# Altium schematic symbol library CRCW040266K5FKED.SchLib: 1 symbol
Pins are listed as number, name and electrical type; pins without a type are passive.

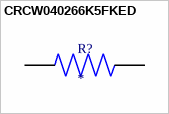
[diagram p0: symbol CRCW040266K5FKED]

## CRCW040266K5FKED
designator R?
Res Thick Film 0402 66.5K Ohm 1% 1/16W Â±100ppm/Â°C Molded SMD SMD Paper T/R; MP: CRCW040266K5FKED; MF: {'manufacturer': u'Vishay Dale'}; Price: None; Availability: Unavailable; Value: *; Package: None
footprint RESC1005X40N
pins: 1, 2